# EAGLE library part MPXV (library moderdevice_breakout)
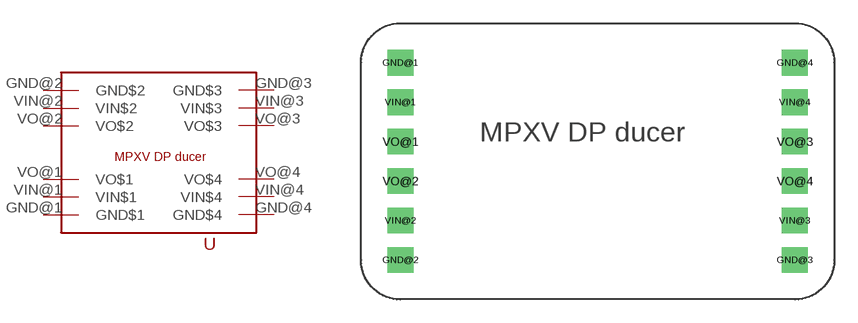
[diagram p0: symbol with the pads of MPXV; footprint MPXV]

Designator prefix -

## MPXV  [MPXV]
GND@1  GND$1  in
GND@2  GND$2  in
GND@3  GND$3  in
GND@4  GND$4  in
VIN@1  VIN$1  in
VIN@2  VIN$2  in
VIN@3  VIN$3  in
VIN@4  VIN$4
VO@1  VO$1  out
VO@2  VO$2  out
VO@3  VO$3  out
VO@4  VO$4  out

## Footprint MPXV (pad centres in mm)
drill 1.1 square: GND@1 -12.7,6.35; GND@2 -12.7,-6.35; GND@3 12.7,-6.35; GND@4 12.7,6.35; VIN@1 -12.7,3.81; VIN@2 -12.7,-3.81; VIN@3 12.7,-3.81; VIN@4 12.7,3.81; VO@1 -12.7,1.27; VO@2 -12.7,-1.27; VO@3 12.7,1.27; VO@4 12.7,-1.27